# Altium schematic symbol library IPD038N06N3 G.SchLib: 1 symbol
Pins are listed as number, name and electrical type; pins without a type are passive.

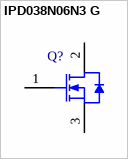
[diagram p0: symbol IPD038N06N3 G]

## IPD038N06N3 G
designator Q?
N-Channel OptiMOS 3 Power-Transistor, 60 V VDS, 90 A ID, -55 to 175 degC, PG-TO252-3-11, Reel, Green; Manufacturer: Infineon; PartNumber: IPD038N06N3 G; Green: TRUE; ID (max): 90 A; IDpuls (max): 360 A; Polarity: N; Ptot (max): 188 W; QG: 98 nC; RDS (on) (max): 3.8 mOhm; Rth: 0.8 K/W; RthJA (max): 75 K/W; VDS (max): 60 V; VGS(th) (max): 4 V; VGS(th) (min): 2 V; DatasheetVersion: Rev. 1.02; PackageVersion: Rev. 02, 03/2007; PackageReference: PG-TO252-3-11; PackageDescription: 3-Pin Plastic (Green) Transistor Single Outline Package, 6.57 x 6.1 mm Body, 2.29 mm Pitch; Supplier 1: Digi-Key; Supplier Part Number 1: IPD038N06N3 G-ND; Supplier 2: Mouser; Supplier Part Number 2: 726-IPD038N06N3G; Halogen-free: TRUE; Packing: Reel; RthJC (max): 0.8 K/W; Mounting Technology: Surface Mount; ComponentLink1Description: Manufacturer URL; ComponentLink1URL: http://www.infineon.com/; ComponentLink2Description: Datasheet; ComponentLink2URL: http://www.infineon.com/dgdl/IPD038N06N3_Rev12.pdf?folderId=db3a3043132679fb0113346bdc4505a3&fileId=db3a304317a7483601181bf8dae11675; ComponentLink3Description: Package Specification; ComponentLink3URL: http://www.infineon.com/dgdl/IPD160N04L_rev1.0.pdf?folderId=db3a3043163797a6011643468e7505a4&fileId=db3a3043163797a60116436401cf05cf
footprint INF-PG-TO252-3-11_A_N (DPAK, 3-Leads, Body 6.57x6.1mm, Pitch 2.29mm, IPC Medium Density)
footprint INF-PG-TO252-3-11_A_L (DPAK, 3-Leads, Body 6.57x6.1mm, Pitch 2.29mm, IPC High Density)
footprint INF-PG-TO252-3-11_A_M (DPAK, 3-Leads, Body 6.57x6.1mm, Pitch 2.29mm, IPC Low Density)
pins: 1 GATE, 2 DRAIN, 3 SOURCE